# EAGLE library part USB3150-30-130-A (library USB3150-30-130-A)
Vertical Through Hole Type B Micro USB Plug w/ Shell Stakes and Pegs
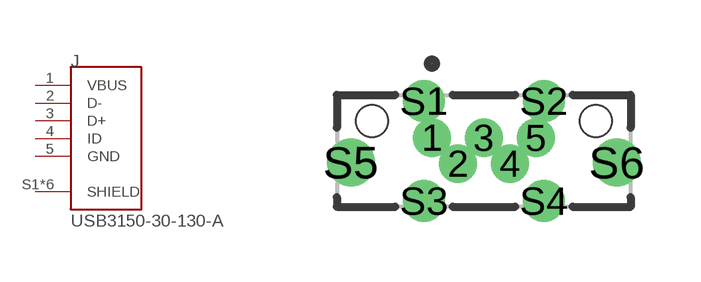
[diagram p0: symbol with the pads of GCT_USB3150-30-130-A; footprint GCT_USB3150-30-130-A]

Designator prefix J

## USB3150-30-130-A (Availability: Unavailable; Description: Vertical Through Hole Type B Micro USB Plug w/ Shell Stakes and Pegs; MF: Global Connector Technology; MP: USB3150-30-130-A; Package: None; Price: None)  [GCT_USB3150-30-130-A]
1  VBUS  pas
2  D-  pas
3  D+  pas
4  ID  pas
5  GND  pas
S1  SHIELD  pas
S2  SHIELD  pas
S3  SHIELD  pas
S4  SHIELD  pas
S5  SHIELD  pas
S6  SHIELD  pas

## Footprint GCT_USB3150-30-130-A (pad centres in mm)
drill 0.45 pad 0.75: 1 -1.3,0.65; 2 -0.65,0; 3 0,0.65; 4 0.65,0; 5 1.3,0.65
drill 0.55 pad 0.79: S1 -1.5,1.57; S2 1.5,1.57; S3 -1.5,-0.93; S4 1.5,-0.93
drill 0.7 pad 1.1: S5 -3.325,0.03; S6 3.325,0.03
hole 0.8 at -2.8,1.07
hole 0.8 at 2.8,1.07